# EAGLE library part LTC1420CGNPBF (library Oscilloscope_Components v39)
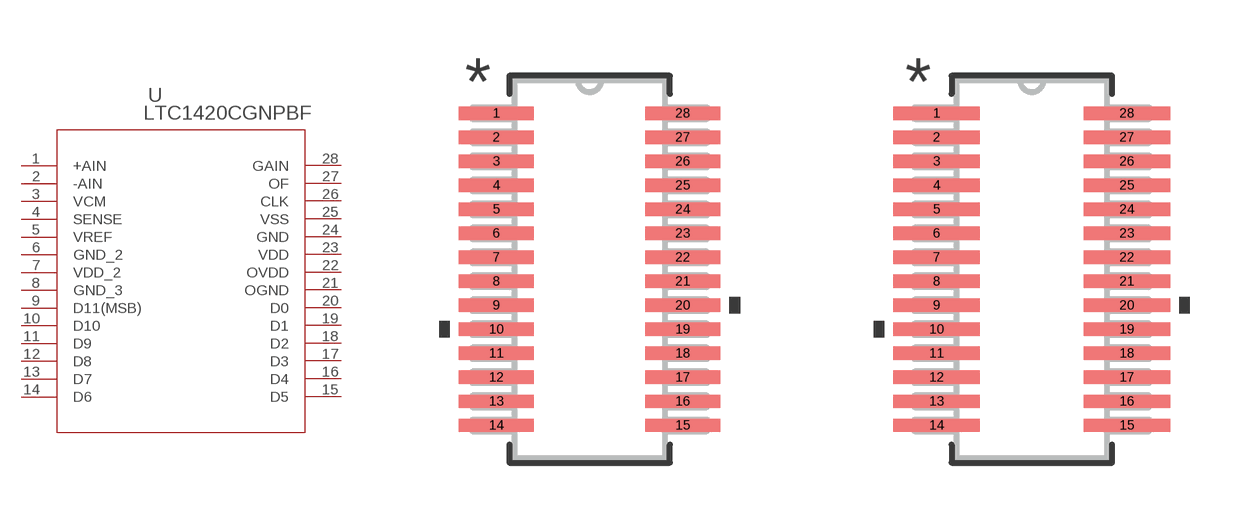
[diagram p5: symbol with the pads of SSOP-28_GN_LIT; footprints SSOP-28_GN_LIT, SSOP-28_GN_LIT-M]

Designator prefix U

## LTC1420CGNPBFSSOP-28_GN_LIT (COPYRIGHT: Copyright (C) 2023 Ultra Librarian. All rights reserved.; MANUFACTURER_PART_NUMBER: LTC1420CGN#PBF; MFR_NAME: Analog Devices Inc)  [SSOP-28_GN_LIT]
1  +AIN  in
2  -AIN  in
3  VCM  out
4  SENSE  pas
5  VREF  pwr
6  GND_2  pwr
7  VDD_2  pwr
8  GND_3  pwr
9  D11(MSB)  out
10  D10  out
11  D9  out
12  D8  out
13  D7  out
14  D6  out
15  D5  out
16  D4  out
17  D3  out
18  D2  out
19  D1  out
20  D0  out
21  OGND  pwr
22  OVDD  pwr
23  VDD  pwr
24  GND  pwr
25  VSS  pwr
26  CLK  pas
27  OF  out
28  GAIN  in

## LTC1420CGNPBFSSOP-28_GN_LIT-M (COPYRIGHT: Copyright (C) 2023 Ultra Librarian. All rights reserved.; MANUFACTURER_PART_NUMBER: LTC1420CGN#PBF; MFR_NAME: Analog Devices Inc)  [SSOP-28_GN_LIT-M]
Pads as for SSOP-28_GN_LIT

## LTC1420CGNPBFSSOP-28_GN_LIT-L (COPYRIGHT: Copyright (C) 2023 Ultra Librarian. All rights reserved.; MANUFACTURER_PART_NUMBER: LTC1420CGN#PBF; MFR_NAME: Analog Devices Inc)  [SSOP-28_GN_LIT-L]
Pads as for SSOP-28_GN_LIT

## Footprint SSOP-28_GN_LIT (pad centres in mm)
smd 1.981 x 0.356: 1 -2.464,4.128; 2 -2.464,3.493; 3 -2.464,2.857; 4 -2.464,2.223; 5 -2.464,1.587; 6 -2.464,0.953; 7 -2.464,0.318; 8 -2.464,-0.318; 9 -2.464,-0.953; 10 -2.464,-1.587; 11 -2.464,-2.223; 12 -2.464,-2.857; 13 -2.464,-3.493; 14 -2.464,-4.128; 15 2.464,-4.128; 16 2.464,-3.493; 17 2.464,-2.857; 18 2.464,-2.223; 19 2.464,-1.587; 20 2.464,-0.953; 21 2.464,-0.318; 22 2.464,0.318; 23 2.464,0.953; 24 2.464,1.587; 25 2.464,2.223; 26 2.464,2.857; 27 2.464,3.493; 28 2.464,4.128

## Footprint SSOP-28_GN_LIT-M (pad centres in mm)
smd 2.286 x 0.356: 1 -2.515,4.128; 2 -2.515,3.493; 3 -2.515,2.857; 4 -2.515,2.223; 5 -2.515,1.587; 6 -2.515,0.953; 7 -2.515,0.318; 8 -2.515,-0.318; 9 -2.515,-0.953; 10 -2.515,-1.587; 11 -2.515,-2.223; 12 -2.515,-2.857; 13 -2.515,-3.493; 14 -2.515,-4.128; 15 2.515,-4.128; 16 2.515,-3.493; 17 2.515,-2.857; 18 2.515,-2.223; 19 2.515,-1.587; 20 2.515,-0.953; 21 2.515,-0.318; 22 2.515,0.318; 23 2.515,0.953; 24 2.515,1.587; 25 2.515,2.223; 26 2.515,2.857; 27 2.515,3.493; 28 2.515,4.128

## Footprint SSOP-28_GN_LIT-L (pad centres in mm)
smd 1.676 x 0.305: 1 -2.413,4.128; 2 -2.413,3.493; 3 -2.413,2.857; 4 -2.413,2.223; 5 -2.413,1.587; 6 -2.413,0.953; 7 -2.413,0.318; 8 -2.413,-0.318; 9 -2.413,-0.953; 10 -2.413,-1.587; 11 -2.413,-2.223; 12 -2.413,-2.857; 13 -2.413,-3.493; 14 -2.413,-4.128; 15 2.413,-4.128; 16 2.413,-3.493; 17 2.413,-2.857; 18 2.413,-2.223; 19 2.413,-1.587; 20 2.413,-0.953; 21 2.413,-0.318; 22 2.413,0.318; 23 2.413,0.953; 24 2.413,1.587; 25 2.413,2.223; 26 2.413,2.857; 27 2.413,3.493; 28 2.413,4.128